# Altium schematic symbol library OSD335-X_Devboard.SchLib: 66 symbols
Pins are listed as number, name and electrical type; pins without a type are passive.

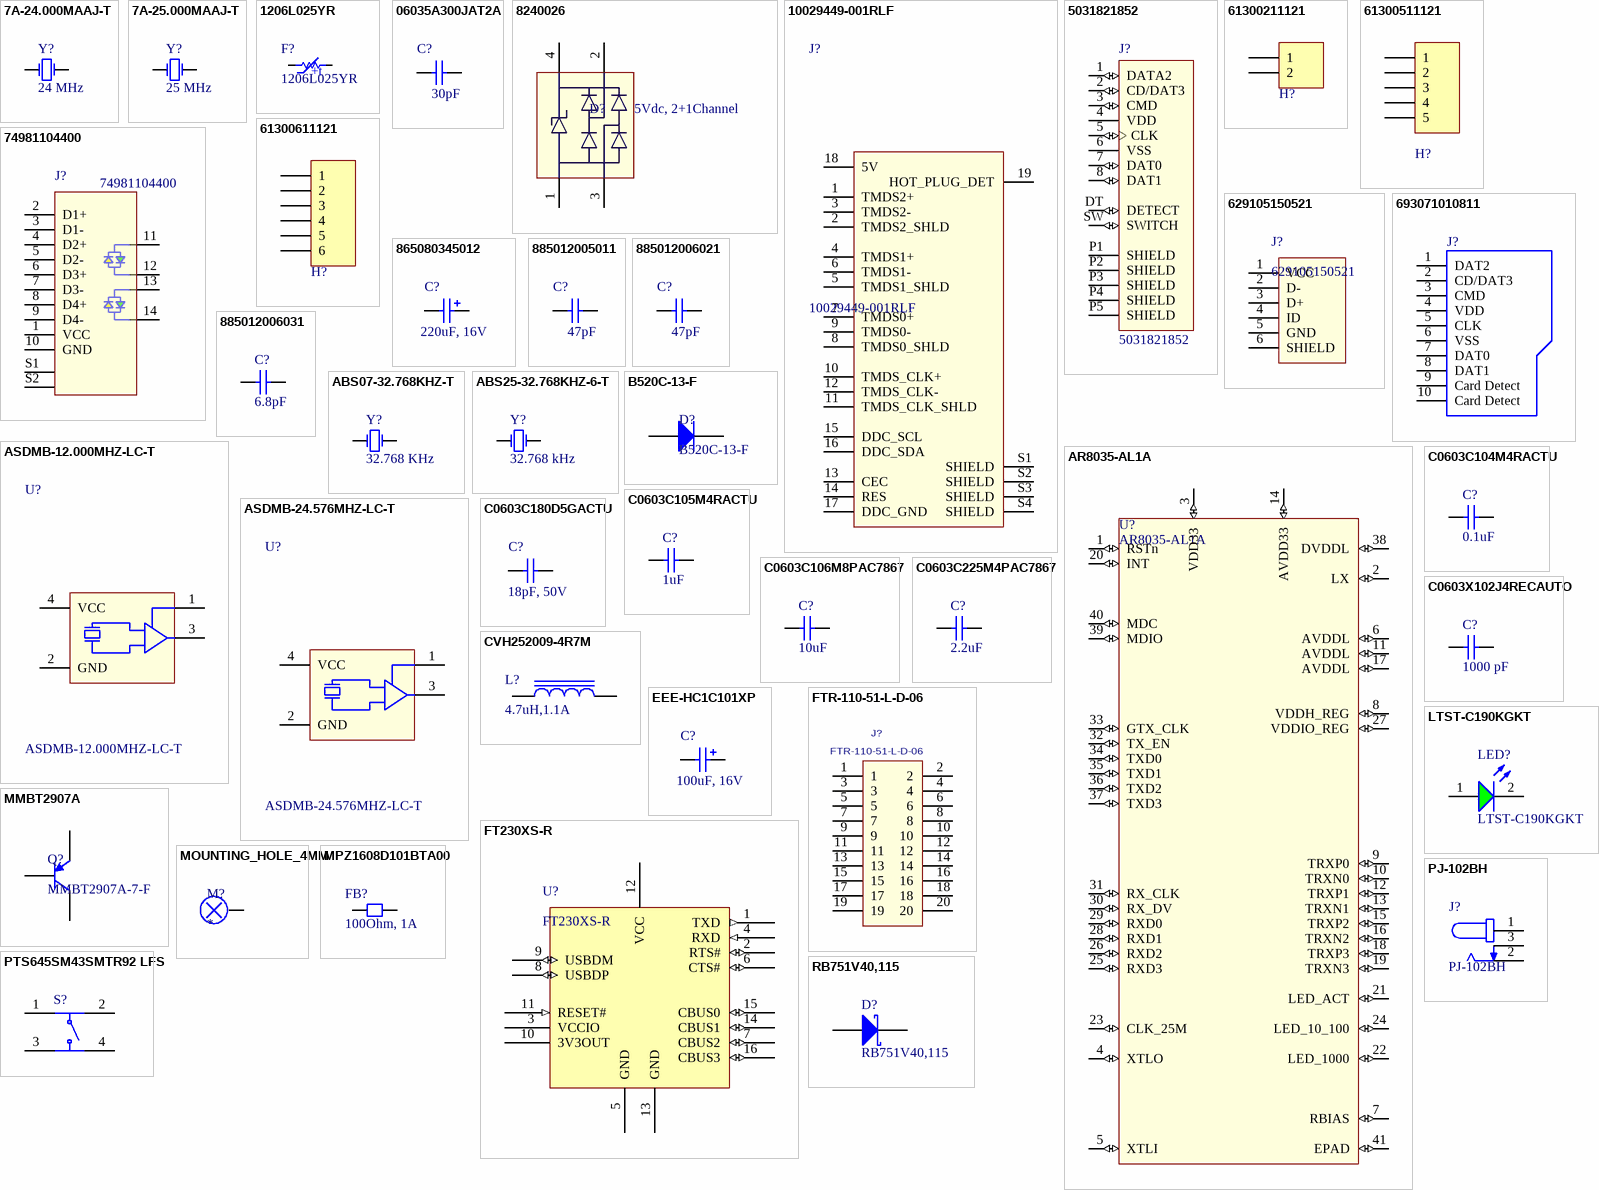
[diagram p0: symbols 7A-24.000MAAJ-T to RB751V40,115]

## 7A-24.000MAAJ-T
designator Y?, comment 24 MHz
CRYSTAL 24.0000MHZ 18PF SMD; Manufacturer: TXC CORPORATION; Manufacturer Part No.: 7A-24.000MAAJ-T; Date: 2020; ComponentLink1Description: Manufacturer Link; ComponentLink1URL: http://www.ecsxtal.com/; ComponentLink2Description: Data Sheet; Supplier Part No.: 887-1090-1-ND; Supplier: Digikey; Package Reference: 7A-24MHz; Package Description: 7A-24MHz; Mounting Technology: SMD; Datasheet: CRYSTAL 24.0000MHZ 18PF SMD; Value: 24 MHz
footprint 7A-24MHz
pins: 1 OSC1, 2 OSC2

## 7A-25.000MAAJ-T
designator Y?, comment 25 MHz
CRYSTAL 25.0000MHZ 18PF SMD; Manufacturer: TXC CORPORATION; Manufacturer Part No.: 7A-25.000MAAJ-T; Date: 2020; ComponentLink1Description: Manufacturer Link; ComponentLink1URL: http://www.ecsxtal.com/; ComponentLink2Description: Data Sheet; Supplier Part No.: 887-1092-1-ND; Supplier: Digikey; Package Reference: 7A-24MHz; Package Description: 7A-24MHz; Mounting Technology: SMD; Datasheet: *; Value: 25 MHz
footprint 7A-24MHz
pins: 1 OSC1, 2 OSC2

## 1206L025YR
designator F?
PTC RESET FUSE 16V 250MA 1206; Manufacturer: Littelfuse Inc.; Rated Current: 0.25A; Manufacturer Part No.: 1206L025YR; Supplier: Digi-Key; Mounting Technology: SMD; Supplier Part No.: F2110CT-ND; Package Description: Polymeric PTC Resettable Fuse 16V 250mA Ih Surface Mount 1206 (3216 Metric), Concave; Package Reference: CAP_1206; Datasheet: https://www.littelfuse.com/~/media/electronics/datasheets/resettable_ptcs/littelfuse_ptc_1206l_datasheet.pdf.pdf
footprint RES_1206
pins: 1, 2
text: +t

## 06035A300JAT2A
designator C?, comment 30pF
CAP CER 30PF 50V C0G/NP0 0603; Manufacturer Part No.: 06035A300JAT2A; Manufacturer: AVX Corporation; Tolerance: 5%; Rated Voltage: 50 VDC; ComponentLink1Description: Manufacturer; ComponentLink1URL: http://www.we-online.de; ComponentLink2Description: Datasheet; ComponentLink2URL: https://katalog.we-online.com/pbs/datasheet/865080345012.pdf; Mounting Technology: SMD; Value: 30 pF; Datasheet: *; Supplier: Digi-Key; Package Reference: CAP_0603; Supplier Part No.: 478-7917-1-ND; Package Description: 0603
footprint CAP_0603
pins: 1 N, 2 P

## 8240026
designator D?, comment 5Vdc, 2+1Channel
TVS DIODE 5V 9V SOT143-4 ESD; Manufacturer: Wurth Elektronik; Manufacturer Part No.: 8240026; Reverse Breakdown Voltage min.: 6V; Channel: 2+1; Channel Input Capacitance: 1.2pF; Reverse Peak Pulse Current: 6A; Reverse Channel Leakage Current: 1uA; ComponentLink1Description: Manufacturer; ComponentLink1URL: http://www.we-online.de; ComponentLink2Description: Datasheet; ComponentLink2URL: https://katalog.we-online.com/pbs/datasheet/8240026.pdf; Mounting Technology: SMD; DC Operating Voltage: 5V; Supplier: Digi-Key; Supplier Part No.: 732-4470-1-ND; Datasheet: https://www.we-online.de/katalog/datasheet/8240026.pdf; Package Description: SOT143-4
footprint SOT143-4L (TVS Diode, package SOT143-4L)
pins: 1 GND, 2 IO1, 3 IO2, 4 VDD

## 10029449-001RLF
designator J?
CONN RCPT 1.4 HDMI 19POS SMD R/A; Manufacturer: Amphenol ICC (FCI); Supplier: Digi-Key; Manufacturer Part No.: 10029449-001RLF; Supplier Part No.: 609-1010-1-ND; Mounting Technology: THRU; Package Reference: 10029449-001RLF; Package Description: HDMI HDMI™ 1.4 Receptacle Connector 19 Position Surface Mount, Right Angle; Through Hole; Datasheet: https://cdn.amphenol-icc.com/media/wysiwyg/files/documentation/datasheet/inputoutput/io_hdmi_receptacles.pdf
footprint 10029449-001RLF (HDMI)
pins: 1 TMDS2+, 2 TMDS2_SHLD, 3 TMDS2-, 4 TMDS1+, 5 TMDS1_SHLD, 6 TMDS1-, 7 TMDS0+, 8 TMDS0_SHLD, 9 TMDS0-, 10 TMDS_CLK+, 11 TMDS_CLK_SHLD, 12 TMDS_CLK-, 13 CEC, 14 RES, 15 DDC_SCL, 16 DDC_SDA, 17 DDC_GND, 18 5V, 19 HOT_PLUG_DET, S1 SHIELD, S2 SHIELD, S3 SHIELD, S4 SHIELD

## 5031821852
designator J?
MICRO SD NORMAL ULTRALOWPRO8CKTE; Manufacturer: Molex; Supplier: Digi-Key; Manufacturer Part No.: 5031821852; Supplier Part No.: WM12834CT-ND; Datasheet: *; Package Description: 10 (8 + 2) Position Card Connector microSD™ Surface Mount, Right Angle Gold; Package Reference: 5031821852; Mounting Technology: SMD
footprint 5031821852
pins: 1 DATA2 (io), 2 CD/DAT3 (io), 3 CMD (io), 4 VDD (power), 5 CLK (io), 6 VSS (power), 7 DAT0 (io), 8 DAT1 (io), DT DETECT (io), P1 SHIELD, P2 SHIELD, P3 SHIELD, P4 SHIELD, P5 SHIELD, SW SWITCH (io)

## 61300211121
designator H?, comment 02p  (value not drawn)
CONN HEADER VERT 2POS 2.54MM; Manufacturer: Wurth Elektronik; Manufacturer Part No.: 61300211121; ComponentLink1Description: Manufacturer; ComponentLink1URL: http://www.we-online.de; ComponentLink2Description: Datasheet; ComponentLink2URL: http://katalog.we-online.de/em/datasheet/6130xx11121.pdf; Supplier Part No.: 732-5315-ND; Supplier: Digi-Key; Package Reference: HEADER_2X1_2.54MM; Package Description: Header 2-pin 2.54mm 100mils; Mounting Technology: THRU; Datasheet: https://www.we-online.de/katalog/datasheet/6130xx11121.pdf
footprint HEADER_2X1_2.54MM
pins: 1, 2

## 61300511121
designator H?, comment 06p  (value not drawn)
CONN HEADER VERT 6POS 2.54MM; Manufacturer Part No.: 61300511121; Manufacturer: Wurth Elektronik; Supplier: Digi-Key; ComponentLink1Description: Manufacturer; ComponentLink1URL: http://www.we-online.de; ComponentLink2Description: Datasheet; ComponentLink2URL: http://katalog.we-online.de/em/datasheet/6130xx11121.pdf; Supplier Part No.: 732-5318-ND; Datasheet: https://www.we-online.de/katalog/datasheet/6130xx11121.pdf; Package Reference: HEADER_5X1_2.54MM; Mounting Technology: THRU; Package Description: Header, 5-pin, single-row, 2.54mm/0.100" pitch
footprint HEADER_5X1_2.54MM
pins: 1, 2, 3, 4, 5

## 61300611121
designator H?, comment 06p  (value not drawn)
CONN HEADER VERT 6POS 2.54MM; Manufacturer Part No.: 61300611121; Manufacturer: Wurth Elektronik; Supplier: Digi-Key; ComponentLink1Description: Manufacturer; ComponentLink1URL: http://www.we-online.de; ComponentLink2Description: Datasheet; ComponentLink2URL: http://katalog.we-online.de/em/datasheet/6130xx11121.pdf; Supplier Part No.: 732-5319-ND; Datasheet: https://www.we-online.de/katalog/datasheet/6130xx11121.pdf; Package Reference: HEADER_6X1_2.54MM; Mounting Technology: THRU; Package Description: Header, 6-pin, single-row, 2.54mm/0.100" pitch
footprint HEADER_6X1_2.54MM
pins: 1, 2, 3, 4, 5, 6

## 74981104400
designator J?
WE-RJ45LAN INTEGRATED RJ45 TRANS; Manufacturer: Wurth Elektronik; ComponentLink1Description: Manufacturer; ComponentLink1URL: http://www.we-online.de; ComponentLink2Description: Datasheet; ComponentLink2URL: https://katalog.we-online.com/pbs/datasheet/74981104400.pdf; Manufacturer Part No.: 74981104400; Mounting Technology: SMD; Supplier: Digi-Key; Supplier Part No.: 732-13940-1-ND; Package Description: 1 Port RJ45 Magjack Connector Through Hole 10/100/1000 Base-T, AutoMDIX; Package Reference: 7498110440
footprint 74981104400 (10/100/1000 Base-T, THT, 1x1, Tab up, w/o shield tabs, LED L-R yellow-green/yellow-green, THR)
pins: 1 VCC, 2 D1+, 3 D1-, 4 D2+, 5 D2-, 6 D3+, 7 D3-, 8 D4+, 9 D4-, 10 GND, 11, 12, 13, 14, S1 Shield, S2 Shield

## 629105150521
designator J?
CONN RCPT USB2.0 MICRO B SMD R/A; Manufacturer: Wurth Elektronik; ComponentLink1 Description: Manufacturer; ComponentLink2 Description: Datasheet; ComponentLink1URL: http://www.we-online.de; ComponentLink2URL: http://katalog.we-online.de/em/datasheet/629105150521.pdf; Supplier: Digi-Key; Mounting Technology: THRU/SMD; Supplier Part No.: 732-5960-1-ND; Package Description: MICRO USB TYPE B DEVICE RECEPTACLE; Manufacturer Part No.: 629105150521; Package Reference: 629105150521; Datasheet: https://www.we-online.de/katalog/datasheet/629105150521.pdf
footprint 629105150521 (WR-COM_USB_Micro Type B_Horizontal_SMT Micro Type B Horizontal SMT - 3A current at Pin1 & Pin 5 - with Pegs and THT shielding Pins  - T&R Packaging)
pins: 1 VCC, 2 D-, 3 D+, 4 ID, 5 GND, 6 SHIELD

## 693071010811
designator J?
CONN MICRO SD CARD PUSH-PUSH R/A; Manufacturer: Wurth Elektronik; Manufacturer Part No.: 693071010811; Gender: Socket; ComponentLink1Description: Manufacturer; ComponentLink1URL: http://www.we-online.de; ComponentLink2Description: Datasheet; ComponentLink2URL: https://katalog.we-online.com/em/datasheet/693071010811.pdf; Mounting Technology: SMD; Supplier: Wurth Elektronik; Supplier Part No.: 693071010811; Package Reference: 693071010811; Datasheet: https://www.we-online.de/katalog/datasheet/693071010811.pdf; Package Description: 9 (8 + 1) Position Card Connector Secure Digital - microSD™ Surface Mount, Right Angle Gold
pins: 1 DAT2, 2 CD/DAT3, 3 CMD, 4 VDD, 5 CLK, 6 VSS, 7 DAT0, 8 DAT1, 9 Card Detect, 10 Card Detect

## 865080345012
designator C?, comment 220uF, 16V
CAP 220 UF 20% 16 V; Manufacturer Part No.: 865080345012; Manufacturer: Wurth Elektronik; Rated Voltage: 16 VDC; ComponentLink1Description: Manufacturer; ComponentLink1URL: http://www.we-online.de; ComponentLink2Description: Datasheet; ComponentLink2URL: https://katalog.we-online.com/pbs/datasheet/865080345012.pdf; Mounting Technology: SMD; Value: 220uF; Tolerance: 20%; Datasheet: *; Supplier: Digi-Key; Package Reference: CAP_SMD_6.3x7.7; Supplier Part No.: 732-8422-1-ND; Package Description: CAP_SMD_6.3x7.7
footprint CAP_SMD_6.3x7.7 (Aluminium Electrolytic V-Chip SMT Capacitors, 6.3x7.7mm)
pins: 1 N, 2 P

## 885012005011
designator C?, comment 47pF
CAP CER 47PF 10V C0G/NP0 0402; Manufacturer Part No.: 885012005011; Manufacturer: Wurth Elektronik; Tolerance: 5%; Rated Voltage: 10 VDC; ComponentLink1Description: Manufacturer; ComponentLink1URL: http://www.we-online.de; ComponentLink2Description: Datasheet; ComponentLink2URL: https://katalog.we-online.com/pbs/datasheet/865080345012.pdf; Mounting Technology: SMD; Value: 47 pF; Datasheet: https://katalog.we-online.de/pbs/datasheet/885012005011.pdf; Supplier: Digi-Key; Package Reference: CAP_0402; Supplier Part No.: 732-7429-1-ND; Package Description: 0402
footprint CAP_0402
pins: 1 N, 2 P

## 885012006021
designator C?, comment 47pF
CAP CER 47PF 16V C0G/NP0 0603; Manufacturer Part No.: 885012006021; Manufacturer: Wurth Elektronik; Tolerance: 5%; Rated Voltage: 16 VDC; ComponentLink1Description: Manufacturer; ComponentLink1URL: http://www.we-online.de; ComponentLink2Description: Datasheet; ComponentLink2URL: https://katalog.we-online.com/pbs/datasheet/865080345012.pdf; Mounting Technology: SMD; Value: 47 pF; Datasheet: *; Supplier: Digi-Key; Package Reference: CAP_0603; Supplier Part No.: 732-7764-1-ND; Package Description: 0603
footprint CAP_0603
pins: 1 N, 2 P

## 885012006031
designator C?, comment 6.8pF
CAP CER 6.8PF 25V C0G/NP0 0603; Manufacturer: Wurth Elektronik; Manufacturer Part No.: 885012006031; Tolerance: 0.5pF; ComponentLink1Description: Manufacturer; ComponentLink1URL: http://www.we-online.de; Value: 6.8pF; Rated Voltage: 25V; Ceramic Type: C0G / NP0; Supplier Part No.: 732-7773-1-ND; Package Reference: CAP_0603; Package Description: 0603; Mounting Technology: SMD; Datasheet: https://content.kemet.com/datasheets/KEM_C1002_X7R_SMD.pdf; Supplier: Digi-Key; ComponentLink2Description: Datasheet; ComponentLink2URL: https://content.kemet.com/datasheets/KEM_C1002_X7R_SMD.pdf
footprint CAP_0603
pins: 1, 2

## ABS07-32.768KHZ-T
designator Y?, comment 32.768 KHz
CRYSTAL 32.7680KHZ 12.5PF SMD; Manufacturer: Abracon LLC; Manufacturer Part No.: ABS07-32.768KHZ-T; Date: 2020; ComponentLink1Description: Manufacturer Link; ComponentLink1URL: http://www.ecsxtal.com/; ComponentLink2Description: Data Sheet; Supplier Part No.: 535-9542-1-ND; Supplier: Digikey; Package Reference: ABS07; Package Description: ABS07; Mounting Technology: SMD; Value: 32.768 KHz
footprint ABS07
pins: 1 OSC1, 2 OSC2

## ABS25-32.768KHZ-6-T
designator Y?, comment 32.768 kHz
CRYSTAL 32.7680KHZ 6PF SMD; Manufacturer: Abracon LLC; Manufacturer Part No.: ABS25-32.768KHZ-6-T; Date: 2012-03-10; ComponentLink1Description: Manufacturer Link; ComponentLink1URL: http://www.ecsxtal.com/; ComponentLink2Description: Data Sheet; Supplier Part No.: 535-10240-2-ND; Supplier: Digikey; Package Reference: 4-SOJ; Package Description: 4-SOJ; Mounting Technology: SMD; Datasheet: https://abracon.com/Resonators/abs25.pdf; Value: 32.768 kHz
footprint ABS25
pins: 1 OSC1, 2 OSC2

## AR8035-AL1A
designator U?
IC ETHERNET TRANSCEIVER FULL 1/1 GIGABIT 40QFN; Manufacturer: Qualcomm; Datasheet: *; Manufacturer Part No.: AR8035-AL1A; Supplier: Digi-Key; Package Reference: QFN-40_5x5MM; Supplier Part No.: AR8035-AL1A-ND; Package Description: 40-WFQFN Exposed Pad; Mounting Technology: SMD
footprint QFN-40_5X5MM
pins: 1 RSTn (io), 2 LX (io), 3 VDD33 (io), 4 XTLO (io), 5 XTLI (io), 6 AVDDL (io), 7 RBIAS (io), 8 VDDH_REG (io), 9 TRXP0 (io), 10 TRXN0 (io), 11 AVDDL (io), 12 TRXP1 (io), 13 TRXN1 (io), 14 AVDD33 (io), 15 TRXP2 (io), 16 TRXN2 (io), 17 AVDDL (io), 18 TRXP3 (io), 19 TRXN3 (io), 20 INT (io), 21 LED_ACT (io), 22 LED_1000 (io), 23 CLK_25M (io), 24 LED_10_100 (io), 25 RXD3 (io), 26 RXD2 (io), 27 VDDIO_REG (io), 28 RXD1 (io), 29 RXD0 (io), 30 RX_DV (io), 31 RX_CLK (io), 32 TX_EN (io), 33 GTX_CLK (io), 34 TXD0 (io), 35 TXD1 (io), 36 TXD2 (io), 37 TXD3 (io), 38 DVDDL (io), 39 MDIO (io), 40 MDC (io), 41 EPAD (io)

## ASDMB-12.000MHZ-LC-T
designator U?
MEMS OSC XO 12.0000MHZ LVCMOS; Manufacturer: Abracon LLC; Supplier: Digi-Key; Manufacturer Part No.: ASDMB-12.000MHZ-LC-T; Supplier Part No.: 535-11724-1-ND; Mounting Technology: SMD; Package Reference: ABRACON_4SMD_QFN; Package Description: QFN-4, ABRACON 4-SMD; Datasheet: https://abracon.com/Oscillators/ASDMB.pdf
footprint ABRACON_4SMD_QFN
pins: 1 STDBY, 2 GND, 3 OUT, 4 VCC

## ASDMB-24.576MHZ-LC-T
designator U?
MEMS OSC XO 24.5760MHZ LVCMOS; Manufacturer: Abracon LLC; Supplier: Digi-Key; Manufacturer Part No.: ASDMB-24.576MHZ-LC-T; Supplier Part No.: 535-11729-1-ND; Mounting Technology: SMD; Package Reference: ABRACON_4SMD_QFN; Package Description: QFN-4, ABRACON 4-SMD; Datasheet: https://abracon.com/Oscillators/ASDMB.pdf
footprint ABRACON_4SMD_QFN
pins: 1 STDBY, 2 GND, 3 OUT, 4 VCC

## B520C-13-F
designator D?
DIODE SCHOTTKY 20V 5A SMC; Manufacturer: Diodes Incorporated; Manufacturer Part No.: B520C-13-F; Package Description: Diode Schottky 20V 5A Surface Mount SMC; Package Reference: D0-214AA; Supplier: Digi-Key; Mounting Technology: SMD; Supplier Part No.: B520C-FDICT-ND; Datasheet: https://www.littelfuse.com/~/media/electronics/datasheets/tvs_diodes/littelfuse_tvs_diode_smbj_datasheet.pdf.pdf
footprint D0-214AA
pins: 1 A, 2 K

## C0603C104M4RACTU
designator C?, comment 0.1uF
CAP CER 0.1UF 16V X7R 0603; Manufacturer: KEMET; Manufacturer Part No.: C0603C104M4RACTU; Tolerance: 20%; ComponentLink1Description: Manufacturer; ComponentLink1URL: http://www.we-online.de; Value: 0.1uF; Rated Voltage: 16V; Ceramic Type: X7R; Supplier Part No.: 399-1099-1-ND; Package Reference: CAP_0603; Package Description: 0603; Mounting Technology: SMD; Datasheet: https://content.kemet.com/datasheets/KEM_C1002_X7R_SMD.pdf; Supplier: Digi-Key; ComponentLink2Description: Datasheet; ComponentLink2URL: https://content.kemet.com/datasheets/KEM_C1002_X7R_SMD.pdf
footprint CAP_0603
pins: 1, 2

## C0603C105M4RACTU
designator C?, comment 1uF
CAP CER 1UF 16V X7R 0603; Manufacturer: KEMET; Manufacturer Part No.: C0603C105M4RACTU; Tolerance: 20%; ComponentLink1Description: Manufacturer; ComponentLink1URL: http://www.we-online.de; Value: 1uF; Rated Voltage: 16V; Ceramic Type: X7R; Supplier Part No.: 399-11136-1-ND; Package Reference: CAP_0603; Package Description: 0603; Mounting Technology: SMD; Datasheet: https://content.kemet.com/datasheets/KEM_C1002_X7R_SMD.pdf; Supplier: Digi-Key; ComponentLink2Description: Datasheet; ComponentLink2URL: https://content.kemet.com/datasheets/KEM_C1002_X7R_SMD.pdf
footprint CAP_0603
pins: 1, 2

## C0603C106M8PAC7867
designator C?, comment 10uF
CAP CER 10UF 10V X5R 0603; Manufacturer: KEMET; Manufacturer Part No.: C0603C106M8PAC7867; Ceramic Type: X7R; Tolerance: 20%; ComponentLink1Description: Manufacturer; ComponentLink1URL: http://www.we-online.de; Value: 10uF; Rated Voltage: 10V; Supplier Part No.: 399-14945-1-ND; Package Reference: CAP_0603; Package Description: 0603; Mounting Technology: SMD; Datasheet: https://content.kemet.com/datasheets/KEM_C1002_X7R_SMD.pdf; Supplier: Digi-Key; ComponentLink2Description: Datasheet; ComponentLink2URL: https://content.kemet.com/datasheets/KEM_C1002_X7R_SMD.pdf
footprint CAP_0603
pins: 1, 2

## C0603C180D5GACTU
designator C?, comment 18pF, 50V
CAP CER 18PF 50V C0G/NP0 0603 +/- 0.5 PF; Manufacturer Part No.: C0603C180D5GACTU; Manufacturer: KEMET; Tolerance: 0.5 pF; Rated Voltage: 50 VDC; ComponentLink1Description: Manufacturer; ComponentLink1URL: http://www.we-online.de; ComponentLink2Description: Datasheet; ComponentLink2URL: https://katalog.we-online.com/pbs/datasheet/865080345012.pdf; Mounting Technology: SMD; Value: 18 pF; Datasheet: *; Supplier: Digi-Key; Package Reference: CAP_0603; Supplier Part No.: 399-9018-1-ND; Package Description: 0603
footprint CAP_0603
pins: 1 N, 2 P

## C0603C225M4PAC7867
designator C?, comment 2.2uF
CAP CER 2.2UF 16V X5R 0603; Manufacturer: KEMET; Manufacturer Part No.: C0603C104M4RACTU; Tolerance: 20%; ComponentLink1Description: Manufacturer; ComponentLink1URL: http://www.we-online.de; Value: 2.2uF; Rated Voltage: 16V; Ceramic Type: X5R; Supplier Part No.: 399-13136-1-ND; Package Reference: CAP_0603; Package Description: 0603; Mounting Technology: SMD; Datasheet: https://content.kemet.com/datasheets/KEM_C1002_X7R_SMD.pdf; Supplier: Digi-Key; ComponentLink2Description: Datasheet; ComponentLink2URL: https://content.kemet.com/datasheets/KEM_C1002_X7R_SMD.pdf
footprint CAP_0603
pins: 1, 2

## C0603X102J4RECAUTO
designator C?, comment 1000 pF
CAP CER 0603 1NF 16V X7R 5%; Manufacturer: KEMET; Manufacturer Part No.: C0603X102J4RECAUTO; ComponentLink1Description: Manufacturer; ComponentLink1URL: http://www.we-online.de; Value: 1000 pF; Rated Voltage: 16V; Ceramic Type: X7R; Supplier Part No.: 399-17840-1-ND; Package Reference: CAP_0603; Package Description: 0603; Mounting Technology: SMD; Datasheet: https://content.kemet.com/datasheets/KEM_C1002_X7R_SMD.pdf; Tolerance: 5%; Supplier: Digi-Key; ComponentLink2Description: Datasheet; ComponentLink2URL: https://content.kemet.com/datasheets/KEM_C1002_X7R_SMD.pdf
footprint CAP_0603
pins: 1, 2

## CVH252009-4R7M
designator L?, comment 4.7uH,1.1A
FIXED IND 4.7UH 1.1A 110MOHM SMD; Manufacturer: Bourns Inc.; Manufacturer Part No.: CVH252009-4R7M; Tolerance: 20%; Mounting Technology: SMD; Package Description: 1008; Supplier: Digi-Key; Supplier Part No.: CVH252009-4R7MDKR-ND; DCR: 110 mOhm; DC Current: 1.1A; Package Reference: IND_1008; ComponentLink1Description: Datasheet; ComponentLink1URL: https://www.bourns.com/docs/Product-Datasheets/CVH.pdf
footprint IND_1008
pins: 1, 2

## EEE-HC1C101XP
designator C?, comment 100uF, 16V
CAP ALUM 100UF 20% 16V SMD; Manufacturer Part No.: EEE-HC1C101XP; Manufacturer: Panasonic Electronic Components; Rated Voltage: 16 VDC; ComponentLink1Description: Manufacturer; ComponentLink1URL: http://www.we-online.de; ComponentLink2Description: Datasheet; ComponentLink2URL: https://katalog.we-online.com/pbs/datasheet/865080345012.pdf; Mounting Technology: SMD; Value: 100uF; Tolerance: 20%; Datasheet: *; Supplier: Digi-Key; Supplier Part No.: PCE3750CT-ND
footprint RADIAL_CAN_6.3MM (7.7mm height)
pins: 1 N, 2 P

## FT230XS-R
designator U?
IC USB SERIAL BASIC UART 16SSOP; Manufacturer: FTDI, Future Technology Devices International Ltd; Manufacturer Part No.: FT230XS-R; Supplier: Digi-Key; Mounting Technology: SMD; Supplier Part No.: 768-1135-1-ND; Datasheet: https://www.ftdichip.com/Support/Documents/DataSheets/ICs/DS_FT230X.pdf; Package Reference: SSOP-16; Package Description: USB Bridge, USB to UART USB 2.0 UART Interface 16-SSOP; ComponentLink1Description: Datasheet; ComponentLink1URL: https://www.ftdichip.com/Support/Documents/DataSheets/ICs/DS_FT230X.pdf
footprint SOP64P600X175-16N (SOP, 16-Leads, Body 4.90x3.90mm, Pitch 0.64mm, IPC Medium Density)
pins: 1 TXD (out), 2 RTS# (io), 3 VCCIO (power), 4 RXD (in), 5 GND (power), 6 CTS# (io), 7 CBUS2 (io), 8 USBDP (io), 9 USBDM (io), 10 3V3OUT (power), 11 RESET# (in), 12 VCC (power), 13 GND (power), 14 CBUS1 (io), 15 CBUS0 (io), 16 CBUS3 (io)

## FTR-110-51-L-D-06
designator J?
CONN HEADER SMD 20POS 1.27MM; Manufacturer: SAMTEC; Manufacturer Part No.: FTR-110-51-L-D-06; Supplier: Digi-Key; Mounting Technology: SMD; Supplier Part No.: SAM11229-ND; Package Description: Header 2x10 1.7MM; Datasheet: *; Package Reference: HEADER_2X10_1.7MM
footprint HEADER_2X10_1.7MM
pins: 1, 2, 3, 4, 5, 6, 7, 8, 9, 10, 11, 12, 13, 14, 15, 16, 17, 18, 19, 20

## LTST-C190KGKT
designator LED?
LED GREEN CLEAR CHIP SMD 0603; Manufacturer: Lite-On Inc.; Vf: 2V; Test Current: 20 mA; ComponentLink1Description: Manufacturer; ComponentLink1URL: http://www.we-online.de; ComponentLink2Description: Datasheet; ComponentLink2URL: http://katalog.we-online.com/led/datasheet/150080BS75000.pdf; Color: Green; Manufacturer Part No.: LTST-C190KGKT; Supplier: Digi-Key; Package Reference: LED_0603; Supplier Part No.: 160-1435-1-ND; Mounting Technology: SMD; Datasheet: http://optoelectronics.liteon.com/upload/download/DS22-2000-074/LTST-C190KGKT.PDF
footprint LED_0603
pins: 1 A, 2 C

## MMBT2907A
designator Q?, comment MMBT2907A-7-F
TRANS PNP 60V 0.6A SOT23-3; Manufacturer: Diodes Incorporated; Manufacturer Part No.: MMBT2907A-7-F; Supplier: Digi-Key; Mounting Technology: SMD; Supplier Part No.: MMBT2907A-FDICT-ND; Package Reference: SOT-23-3; Package Description: Bipolar (BJT) Transistor PNP 60V 600mA 200MHz 300mW Surface Mount SOT-23-3; Datasheet: https://media.digikey.com/pdf/Data%20Sheets/Diodes%20PDFs/MMBT2907A_Rev2016.pdf; Current: 0.6A
footprint SOT-23-3 (SOT23, 3-Leads, Body 2.9x1.3mm, Pitch 0.95mm, IPC Low Density)
pins: 1 B, 2 E, 3 C

## MOUNTING_HOLE_4MM
designator M?
footprint MOUNTING_HOLE_4MM
pins: 1

## MPZ1608D101BTA00
designator FB?, comment 100Ohm, 1A
FERRITE BEAD 100 OHM 0603 1LN; Manufacturer Part No.: MPZ1608D101BTA00; Manufacturer: TDK Corporation; Datasheet: https://product.tdk.com/info/en/catalog/datasheets/beads_commercial_power_mpz1608_en.pdf; Supplier: Digi-Key; Package Description: 100 Ohms @ 100MHz 1 Power Line Ferrite Bead 0603 (1608 Metric) 1A 150mOhm; Supplier Part No.: 445-2988-1-ND; Package Reference: CAP_0603; Mounting Technology: SMD
footprint CAP_0603
pins: 1, 2

## PJ-102BH
designator J?
CONN PWR JACK 2.5X5.5MM SOLDER; Manufacturer: CUI Devices; Current: 5A; Supplier Part No.: CP-102BH-ND; Manufacturer Part No.: PJ-102BH; Package Description: Power Barrel Connector Jack 2.50mm ID (0.098"), 5.50mm OD (0.217") Through Hole, Right Angle; Package Reference: PJ-102BH; Mounting Technology: THRU; Datasheet: https://www.cuidevices.com/product/resource/pj-102bh.pdf; Supplier: Digi-Key
footprint PJ-102BH
pins: 1, 2, 3

## PTS645SM43SMTR92 LFS
designator S?
SWITCH TACTILE SPST-NO 0.05A 12V; Manufacturer: C&K; Manufacturer Part No.: PTS645SM43SMTR92 LFS; ComponentLink1Description: Manufacturer; ComponentLink1URL: http://www.we-online.de; ComponentLink2Description: Datasheet; ComponentLink2URL: http://katalog.we-online.de/em/datasheet/4301x2xxx8x6.pdf; Supplier: Digikey; Supplier Part No.: CKN9112CT-ND; Package Description: 6x6mm SMT Switch, 4.3mm height; Mounting Technology: SMD; Datasheet: https://dznh3ojzb2azq.cloudfront.net/products/Tactile/PTS645/documents/datasheet.pdf; Package Reference: SWITCH_6x6MM_SMT
footprint SWITCH_6x6MM_SMT
pins: 1, 2, 3, 4

## RB751V40,115
designator D?
DIODE SCHOTTKY 40V 120MA SOD323; Manufacturer: Nexperia USA Inc.; Forward Voltage: 0.37V; Mounting Technology: SMD; Supplier Part No.: 1727-6301-1-ND; Manufacturer Part No.: RB751V40,115; Package Reference: *; Package Description: *; Forward Current: 120mA; Supplier: Digi-Key
footprint SOD-323
pins: 1 A, 2 K

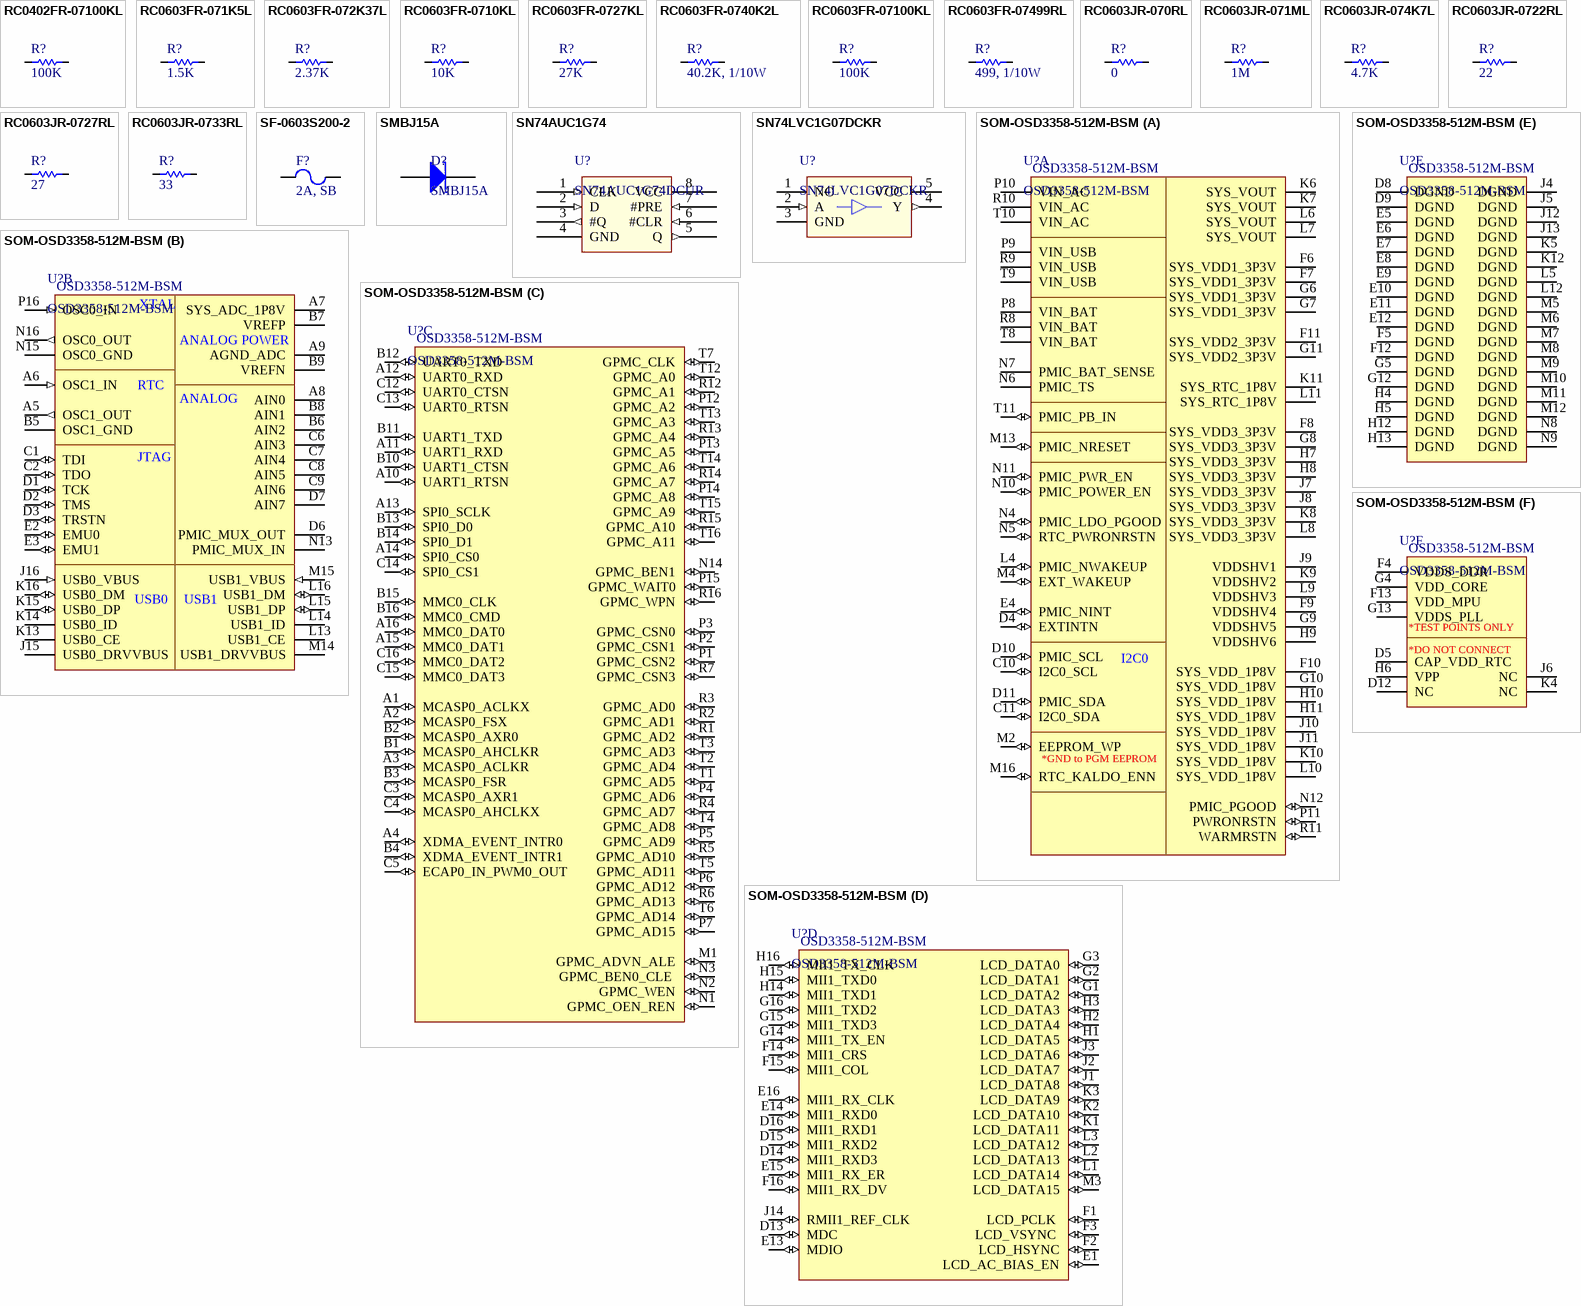
[diagram p1: symbols RC0402FR-07100KL to SOM-OSD3358-512M-BSM]

## RC0402FR-07100KL
designator R?, comment 100K
RES SMD 100K OHM 1% 1/16W 0402; Manufacturer: Yageo; Manufacturer Part No.: RC0402FR-07100KL; Tolerance: 1%; Date: 2020; ComponentLink1Description: Manufacturer Link; ComponentLink1URL: http://www.vishay.com/company/brands/dale/; ComponentLink2Description: Datasheet; ComponentLink2URL: http://www.vishay.com/docs/20035/dcrcwe3.pdf; Supplier: Digikey; Supplier Part No.: 311-100KLRCT-ND; Datasheet: https://www.yageo.com/upload/media/product/productsearch/datasheet/rchip/PYu-RC_Group_51_RoHS_L_10.pdf; Package Reference: RES_0402; Package Description: 0402; Mounting Technology: SMD; Value: 100K; Power Rating: 1/16W
footprint RES_0402
pins: 1, 2

## RC0603FR-071K5L
designator R?, comment 1.5K
RES SMD 1.5K OHM 1% 1/10W 0603; Manufacturer: Yageo; Manufacturer Part No.: RC0603FR-071K5L; Tolerance: 1%; Date: 2020; ComponentLink1Description: Manufacturer Link; ComponentLink1URL: http://www.vishay.com/company/brands/dale/; ComponentLink2Description: Datasheet; ComponentLink2URL: http://www.vishay.com/docs/20035/dcrcwe3.pdf; Supplier: Digikey; Supplier Part No.: 311-1.50KHRCT-ND; Datasheet: https://www.yageo.com/upload/media/product/productsearch/datasheet/rchip/PYu-RC_Group_51_RoHS_L_10.pdf; Package Reference: RES_0603; Package Description: 0603; Mounting Technology: SMD; Value: 1.5K; Power Rating: 1/10W
footprint RES_0603
pins: 1, 2

## RC0603FR-072K37L
designator R?, comment 2.37K
RES SMD 2.37K OHM 1% 1/10W 0603; Manufacturer: Yageo; Manufacturer Part No.: RC0603FR-072K37L; Tolerance: 1%; Date: 2020; ComponentLink1Description: Manufacturer Link; ComponentLink1URL: http://www.vishay.com/company/brands/dale/; ComponentLink2Description: Datasheet; ComponentLink2URL: http://www.vishay.com/docs/20035/dcrcwe3.pdf; Supplier: Digikey; Supplier Part No.: 311-2.37KHRCT-ND; Datasheet: https://www.yageo.com/upload/media/product/productsearch/datasheet/rchip/PYu-RC_Group_51_RoHS_L_10.pdf; Package Reference: RES_0603; Package Description: 0603; Mounting Technology: SMD; Value: 2.37K; Power Rating: 1/10W
footprint RES_0603
pins: 1, 2

## RC0603FR-0710KL
designator R?, comment 10K
RES SMD 10K OHM 1% 1/10W 0603; Manufacturer: Yageo; Manufacturer Part No.: RC0603FR-0710KL; Tolerance: 1%; Date: 2020; ComponentLink1Description: Manufacturer Link; ComponentLink1URL: http://www.vishay.com/company/brands/dale/; ComponentLink2Description: Datasheet; ComponentLink2URL: http://www.vishay.com/docs/20035/dcrcwe3.pdf; Supplier: Digikey; Supplier Part No.: 311-10.0KHRCT-ND; Datasheet: https://www.yageo.com/upload/media/product/productsearch/datasheet/rchip/PYu-RC_Group_51_RoHS_L_10.pdf; Package Reference: RES_0603; Package Description: 0603; Mounting Technology: SMD; Value: 10K; Power Rating: 1/10W
footprint RES_0603
pins: 1, 2

## RC0603FR-0727KL
designator R?, comment 27K
RES SMD 27K OHM 1% 1/10W 0603; Manufacturer: Yageo; Manufacturer Part No.: RC0603FR-0727KL; Tolerance: 1%; Date: 2020; ComponentLink1Description: Manufacturer Link; ComponentLink1URL: http://www.vishay.com/company/brands/dale/; ComponentLink2Description: Datasheet; ComponentLink2URL: http://www.vishay.com/docs/20035/dcrcwe3.pdf; Supplier: Digikey; Supplier Part No.: 311-27.0KHRCT-ND; Datasheet: https://www.yageo.com/upload/media/product/productsearch/datasheet/rchip/PYu-RC_Group_51_RoHS_L_10.pdf; Package Reference: RES_0603; Package Description: 0603; Mounting Technology: SMD; Value: 27K; Power Rating: 1/10W
footprint RES_0603
pins: 1, 2

## RC0603FR-0740K2L
designator R?, comment 40.2K, 1/10W
RES SMD 40.2K OHM 1% 1/10W 0603; Manufacturer: Yageo; Manufacturer Part No.: RC0603FR-0740K2L; Tolerance: 1%; Date: 2020; ComponentLink1Description: Manufacturer Link; ComponentLink1URL: http://www.vishay.com/company/brands/dale/; ComponentLink2Description: Datasheet; ComponentLink2URL: http://www.vishay.com/docs/20035/dcrcwe3.pdf; Supplier: Digikey; Supplier Part No.: 311-40.2KHRCT-ND; Datasheet: https://www.yageo.com/upload/media/product/productsearch/datasheet/rchip/PYu-RC_Group_51_RoHS_L_10.pdf; Package Reference: RES_0603; Package Description: 0603; Mounting Technology: SMD; Value: 40.2K; Power Rating: 1/10W
footprint RES_0603
pins: 1, 2

## RC0603FR-07100KL
designator R?, comment 100K
RES SMD 100K OHM 1% 1/10W 0603; Manufacturer: Yageo; Manufacturer Part No.: RC0603FR-07100KL; Tolerance: 1%; Date: 2020; ComponentLink1Description: Manufacturer Link; ComponentLink1URL: http://www.vishay.com/company/brands/dale/; ComponentLink2Description: Datasheet; ComponentLink2URL: http://www.vishay.com/docs/20035/dcrcwe3.pdf; Supplier: Digikey; Supplier Part No.: 311-100KHRCT-ND; Datasheet: https://www.yageo.com/upload/media/product/productsearch/datasheet/rchip/PYu-RC_Group_51_RoHS_L_10.pdf; Package Reference: RES_0603; Package Description: 0603; Mounting Technology: SMD; Value: 100K; Power Rating: 1/10W
footprint RES_0603
pins: 1, 2

## RC0603FR-07499RL
designator R?, comment 499, 1/10W
RES SMD 499 OHM 1% 1/10W 0603; Manufacturer: Yageo; Manufacturer Part No.: RC0603FR-07499RL; Value: 499; Tolerance: 1%; Date: 2020; ComponentLink1Description: Manufacturer Link; ComponentLink1URL: http://www.vishay.com/company/brands/dale/; ComponentLink2Description: Datasheet; ComponentLink2URL: http://www.vishay.com/docs/20035/dcrcwe3.pdf; Supplier: Digikey; Supplier Part No.: 311-499HRCT-ND; Datasheet: https://www.yageo.com/upload/media/product/productsearch/datasheet/rchip/PYu-RC_Group_51_RoHS_L_10.pdf; Package Reference: RES_0603; Package Description: 0603; Mounting Technology: SMD; Power Rating: 1/10W
footprint RES_0603
pins: 1, 2

## RC0603JR-070RL
designator R?, comment 0
RES SMD 0 OHM JUMPER 1/10W 0603; Manufacturer: Yageo; Manufacturer Part No.: RC0603JR-070RL; Date: 2020; ComponentLink1Description: Manufacturer Link; ComponentLink1URL: http://www.vishay.com/company/brands/dale/; ComponentLink2Description: Datasheet; ComponentLink2URL: http://www.vishay.com/docs/20035/dcrcwe3.pdf; Supplier: Digikey; Supplier Part No.: 311-0.0GRCT-ND; Datasheet: https://www.yageo.com/upload/media/product/productsearch/datasheet/rchip/PYu-RC_Group_51_RoHS_L_10.pdf; Package Reference: RES_0603; Package Description: 0603; Mounting Technology: SMD; Value: 0; Power Rating: 1/10W
footprint RES_0603
pins: 1, 2

## RC0603JR-071ML
designator R?, comment 1M
RES SMD 1M OHM 5% 1/10W 0603; Manufacturer: Yageo; Manufacturer Part No.: RC0603JR-071ML; Tolerance: 5%; Date: 2020; ComponentLink1Description: Manufacturer Link; ComponentLink1URL: http://www.vishay.com/company/brands/dale/; ComponentLink2Description: Datasheet; ComponentLink2URL: http://www.vishay.com/docs/20035/dcrcwe3.pdf; Supplier: Digikey; Supplier Part No.: 311-1.0MGRCT-ND; Datasheet: https://www.yageo.com/upload/media/product/productsearch/datasheet/rchip/PYu-RC_Group_51_RoHS_L_10.pdf; Package Reference: RES_0603; Package Description: 0603; Mounting Technology: SMD; Value: 1M; Power Rating: 1/10W
footprint RES_0603
pins: 1, 2

## RC0603JR-074K7L
designator R?, comment 4.7K
RES SMD 4.7K OHM 5% 1/10W 0603; Manufacturer: Yageo; Manufacturer Part No.: RC0603JR-074K7L; Value: 4.7K; Tolerance: 5%; Date: 2020; ComponentLink1Description: Manufacturer Link; ComponentLink1URL: http://www.vishay.com/company/brands/dale/; ComponentLink2Description: Datasheet; ComponentLink2URL: http://www.vishay.com/docs/20035/dcrcwe3.pdf; Supplier: Digikey; Supplier Part No.: 311-4.7KGRCT-ND; Datasheet: https://www.yageo.com/upload/media/product/productsearch/datasheet/rchip/PYu-RC_Group_51_RoHS_L_10.pdf; Package Reference: RES_0603; Package Description: 0603; Mounting Technology: SMD; Power Rating: 1/10W
footprint RES_0603
pins: 1, 2

## RC0603JR-0722RL
designator R?, comment 22
RES SMD 22 OHM 5% 1/10W 0603; Manufacturer: Yageo; Manufacturer Part No.: RC0603JR-0722RL; Tolerance: 5%; Date: 2020; ComponentLink1Description: Manufacturer Link; ComponentLink1URL: http://www.vishay.com/company/brands/dale/; ComponentLink2Description: Datasheet; ComponentLink2URL: http://www.vishay.com/docs/20035/dcrcwe3.pdf; Supplier: Digikey; Supplier Part No.: 311-22GRCT-ND; Datasheet: https://www.yageo.com/upload/media/product/productsearch/datasheet/rchip/PYu-RC_Group_51_RoHS_L_10.pdf; Package Reference: RES_0603; Package Description: 0603; Mounting Technology: SMD; Power Rating: 1/10W; Value: 22
footprint RES_0603
pins: 1, 2

## RC0603JR-0727RL
designator R?, comment 27
RES SMD 27 OHM 5% 1/10W 0603; Manufacturer: Yageo; Manufacturer Part No.: RC0603JR-0727RL; Tolerance: 5%; Date: 2020; ComponentLink1Description: Manufacturer Link; ComponentLink1URL: http://www.vishay.com/company/brands/dale/; ComponentLink2Description: Datasheet; ComponentLink2URL: http://www.vishay.com/docs/20035/dcrcwe3.pdf; Supplier: Digikey; Supplier Part No.: 311-27GRCT-ND; Datasheet: https://www.yageo.com/upload/media/product/productsearch/datasheet/rchip/PYu-RC_Group_51_RoHS_L_10.pdf; Package Reference: RES_0603; Package Description: 0603; Mounting Technology: SMD; Value: 27
footprint RES_0603
pins: 1, 2

## RC0603JR-0733RL
designator R?, comment 33
RES SMD 33 OHM 5% 1/10W 0603; Manufacturer: Yageo; Manufacturer Part No.: RC0603JR-0733RL; Tolerance: 5%; Date: 2020; ComponentLink1Description: Manufacturer Link; ComponentLink1URL: http://www.vishay.com/company/brands/dale/; ComponentLink2Description: Datasheet; ComponentLink2URL: http://www.vishay.com/docs/20035/dcrcwe3.pdf; Supplier: Digikey; Supplier Part No.: 311-33GRCT-ND; Datasheet: https://www.yageo.com/upload/media/product/productsearch/datasheet/rchip/PYu-RC_Group_51_RoHS_L_10.pdf; Package Reference: RES_0603; Package Description: 0603; Mounting Technology: SMD; Value: 33
footprint RES_0603
pins: 1, 2

## SF-0603S200-2
designator F?, comment 2A, SB
FUSE BOARD MOUNT 2A 32VDC 0603; Manufacturer: Bourns Inc.; Manufacturer Part No.: SF-0603S200-2; ComponentLink1Description: Manufacturer Link; ComponentLink1URL: http://www.littelfuse.com/cgi-bin/r.cgi/en/brand_wickmann.html?LFSESSION=wIUUW1TXzO; ComponentLink2Description: Data Sheet; ComponentLink2URL: R:\Eclipse\ELE\PDF\Wickmann\Fuse TE-5 395.pdf; Date: 2020; Supplier: Digi-Key; Supplier Part No.: SF-0603S200-2CT-ND; Mounting Technology: SMD; Package Description: 2A  AC 32V DC Fuse Board Mount (Cartridge Style Excluded) Surface Mount 0603 (1608 Metric); Package Reference: CAP_0603
footprint CAP_0603
pins: 1, 2

## SMBJ15A
designator D?
TVS DIODE 15V 24.4V DO214AA; Manufacturer: Littelfuse Inc.; Manufacturer Part No.: SMBJ15A; Package Description: 24.4V Clamp 24.6A Ipp Tvs Diode Surface Mount DO-214AA (SMBJ); Package Reference: *; Supplier: Digi-Key; Mounting Technology: SMD; Supplier Part No.: SMBJ15ALFCT-ND; Datasheet: https://www.littelfuse.com/~/media/electronics/datasheets/tvs_diodes/littelfuse_tvs_diode_smbj_datasheet.pdf.pdf
footprint D0-214AA
pins: 1 A, 2 K

## SN74AUC1G74
designator U?, comment SN74AUC1G74DCUR
IC FF D-TYPE SNGL 1BIT US8; Manufacturer: Texas Instruments; Supplier: Digi-Key; Supplier Part No.: 296-18560-1-ND; Manufacturer Part No.: SN74AUC1G74DCUR; Mounting Technology: SMD; Package Description: Flip Flop 1 Element D-Type 1 Bit Positive Edge 8-VFSOP (0.091", 2.30mm Width); Package Reference: 8-VFSOP; Datasheet: https://www.ti.com/lit/ds/symlink/sn74auc1g74.pdf
footprint 8-VFSOP
pins: 1 CLK (in), 2 D (in), 3 #Q (out), 4 GND (power), 5 Q (out), 6 #CLR (in), 7 #PRE (in), 8 VCC (power)

## SN74LVC1G07DCKR
designator U?
IC BUF NON-INVERT 5.5V SC70-5; Manufacturer: Texas Instruments; Supplier: Digi-Key; Supplier Part No.: 296-8486-1-ND; Manufacturer Part No.: SN74LVC1G07DCKR; Mounting Technology: SMD; Package Reference: *; Package Description: Buffer, Non-Inverting 1 Element 1 Bit per Element Open Drain Output SC-70-5; ComponentLink1Description: Datasheet; ComponentLink1URL: https://www.ti.com/lit/ds/symlink/sn74lvc1g07.pdf
footprint SC70
pins: 1 NC, 2 A (in), 3 GND (power), 4 Y (out), 5 VCC (power)

## SOM-OSD3358-512M-BSM
designator U?, comment OSD3358-512M-BSM
OSD3358-512M-BSM , 256-FBGA, 21mmx21mmx3mm; Manufacturer: Octavo Systems; Package Description: 256-Ball Grid Array, 21x21x3 mm, Pitch 1.27 mm; Package: FBGA; Pin Count: 256-ball; Mounting Technology: SMD; ComponentLink1Description: Manufacturer URL; ComponentLink1URL: http://www.octavosystems.com/; Package Reference: FBGA-256; Supplier: Digi-Key; Supplier Part No.: 1676-1002-ND; PartNumber: OSD3358-512M-BSM
footprint BGA256C127P16X16_2100X2100X308 (BGA, 256-Leads, Body 21.00x21.00mmx3.08mm, Pitch 1.27mm)
part A pins: C10 I2C0_SCL (io), C11 I2C0_SDA (io), D4 EXTINTN (io), D10 PMIC_SCL (io), D11 PMIC_SDA (io), E4 PMIC_NINT (io), F6 SYS_VDD1_3P3V (power), F7 SYS_VDD1_3P3V (power), F8 SYS_VDD3_3P3V (power), F9 VDDSHV4 (power), F10 SYS_VDD_1P8V (power), F11 SYS_VDD2_3P3V (power), G6 SYS_VDD1_3P3V (power), G7 SYS_VDD1_3P3V (power), G8 SYS_VDD3_3P3V (power), G9 VDDSHV5 (power), G10 SYS_VDD_1P8V (power), G11 SYS_VDD2_3P3V (power), H7 SYS_VDD3_3P3V (power), H8 SYS_VDD3_3P3V (power), H9 VDDSHV6 (power), H10 SYS_VDD_1P8V (power), H11 SYS_VDD_1P8V (power), J7 SYS_VDD3_3P3V (power), J8 SYS_VDD3_3P3V (power), J9 VDDSHV1 (power), J10 SYS_VDD_1P8V (power), J11 SYS_VDD_1P8V (power), K6 SYS_VOUT (power), K7 SYS_VOUT (power), K8 SYS_VDD3_3P3V (power), K9 VDDSHV2 (power), K10 SYS_VDD_1P8V (power), K11 SYS_RTC_1P8V (power), L4 PMIC_NWAKEUP (io), L6 SYS_VOUT (power), L7 SYS_VOUT (power), L8 SYS_VDD3_3P3V (power), L9 VDDSHV3 (power), L10 SYS_VDD_1P8V (power), L11 SYS_RTC_1P8V (power), M2 EEPROM_WP (io), M4 EXT_WAKEUP (io), M13 PMIC_NRESET (io), M16 RTC_KALDO_ENN (io), N4 PMIC_LDO_PGOOD (io), N5 RTC_PWRONRSTN (io), N6 PMIC_TS, N7 PMIC_BAT_SENSE, N10 PMIC_POWER_EN (io), N11 PMIC_PWR_EN (io), N12 PMIC_PGOOD (io), P8 VIN_BAT (power), P9 VIN_USB (power), P10 VIN_AC (power), P11 PWRONRSTN (io), R8 VIN_BAT (power), R9 VIN_USB (power), R10 VIN_AC (power), R11 WARMRSTN (io), T8 VIN_BAT (power), T9 VIN_USB (power), T10 VIN_AC (power), T11 PMIC_PB_IN (io)
part B pins: A5 OSC1_OUT (out), A6 OSC1_IN (in), A7 SYS_ADC_1P8V (power), A8 AIN0, A9 AGND_ADC (power), B5 OSC1_GND (power), B6 AIN2, B7 VREFP (power), B8 AIN1, B9 VREFN (power), C1 TDI (io), C2 TDO (io), C6 AIN3, C7 AIN4, C8 AIN5, C9 AIN6, D1 TCK (io), D2 TMS (io), D3 TRSTN (io), D6 PMIC_MUX_OUT, D7 AIN7, E2 EMU0 (io), E3 EMU1 (io), J15 USB0_DRVVBUS (power), J16 USB0_VBUS (in), K13 USB0_CE (power), K14 USB0_ID, K15 USB0_DP (io), K16 USB0_DM (io), L13 USB1_CE (power), L14 USB1_ID, L15 USB1_DP (io), L16 USB1_DM (io), M14 USB1_DRVVBUS (power), M15 USB1_VBUS (in), N13 PMIC_MUX_IN, N15 OSC0_GND (power), N16 OSC0_OUT (out), P16 OSC0_IN (in)
part C pins: A1 MCASP0_ACLKX (io), A2 MCASP0_FSX (io), A3 MCASP0_ACLKR (io), A4 XDMA_EVENT_INTR0 (io), A10 UART1_RTSN (io), A11 UART1_RXD (io), A12 UART0_RXD (io), A13 SPI0_SCLK (io), A14 SPI0_CS0 (io), A15 MMC0_DAT1 (io), A16 MMC0_DAT0 (io), B1 MCASP0_AHCLKR (io), B2 MCASP0_AXR0 (io), B3 MCASP0_FSR (io), B4 XDMA_EVENT_INTR1 (io), B10 UART1_CTSN (io), B11 UART1_TXD (io), B12 UART0_TXD (io), B13 SPI0_D0 (io), B14 SPI0_D1 (io), B15 MMC0_CLK (io), B16 MMC0_CMD (io), C3 MCASP0_AXR1 (io), C4 MCASP0_AHCLKX (io), C5 ECAP0_IN_PWM0_OUT (io), C12 UART0_CTSN (io), C13 UART0_RTSN (io), C14 SPI0_CS1 (io), C15 MMC0_DAT3 (io), C16 MMC0_DAT2 (io), M1 GPMC_ADVN_ALE (io), N1 GPMC_OEN_REN (io), N2 GPMC_WEN (io), N3 GPMC_BEN0_CLE  (io), N14 GPMC_BEN1 (io), P1 GPMC_CSN2 (io), P2 GPMC_CSN1 (io), P3 GPMC_CSN0 (io), P4 GPMC_AD6 (io), P5 GPMC_AD9 (io), P6 GPMC_AD12 (io), P7 GPMC_AD15 (io), P12 GPMC_A2 (io), P13 GPMC_A5 (io), P14 GPMC_A8 (io), P15 GPMC_WAIT0 (io), R1 GPMC_AD2 (io), R2 GPMC_AD1 (io), R3 GPMC_AD0 (io), R4 GPMC_AD7 (io), R5 GPMC_AD10 (io), R6 GPMC_AD13 (io), R7 GPMC_CSN3 (io), R12 GPMC_A1 (io), R13 GPMC_A4 (io), R14 GPMC_A7 (io), R15 GPMC_A10 (io), R16 GPMC_WPN (io), T1 GPMC_AD5 (io), T2 GPMC_AD4 (io), T3 GPMC_AD3 (io), T4 GPMC_AD8 (io), T5 GPMC_AD11 (io), T6 GPMC_AD14 (io), T7 GPMC_CLK (io), T12 GPMC_A0 (io), T13 GPMC_A3 (io), T14 GPMC_A6 (io), T15 GPMC_A9 (io), T16 GPMC_A11 (io)
part D pins: D13 MDC (io), D14 MII1_RXD3 (io), D15 MII1_RXD2 (io), D16 MII1_RXD1 (io), E1 LCD_AC_BIAS_EN (io), E13 MDIO (io), E14 MII1_RXD0 (io), E15 MII1_RX_ER (io), E16  MII1_RX_CLK (io), F1 LCD_PCLK  (io), F2 LCD_HSYNC (io), F3 LCD_VSYNC  (io), F14 MII1_CRS (io), F15 MII1_COL (io), F16 MII1_RX_DV (io), G1 LCD_DATA2 (io), G2 LCD_DATA1 (io), G3 LCD_DATA0 (io), G14 MII1_TX_EN (io), G15 MII1_TXD3 (io), G16 MII1_TXD2 (io), H1 LCD_DATA5 (io), H2 LCD_DATA4 (io), H3 LCD_DATA3 (io), H14 MII1_TXD1 (io), H15 MII1_TXD0 (io), H16  MII1_TX_CLK (io), J1 LCD_DATA8 (io), J2 LCD_DATA7 (io), J3 LCD_DATA6 (io), J14 RMII1_REF_CLK (io), K1 LCD_DATA11 (io), K2 LCD_DATA10 (io), K3 LCD_DATA9 (io), L1 LCD_DATA14 (io), L2 LCD_DATA13 (io), L3 LCD_DATA12 (io), M3 LCD_DATA15 (io)
part E pins: D8 DGND (power), D9 DGND (power), E5 DGND (power), E6 DGND (power), E7 DGND (power), E8 DGND (power), E9 DGND (power), E10 DGND (power), E11 DGND (power), E12 DGND (power), F5 DGND (power), F12 DGND (power), G5 DGND (power), G12 DGND (power), H4 DGND (power), H5 DGND (power), H12 DGND (power), H13 DGND (power), J4 DGND (power), J5 DGND (power), J12 DGND (power), J13 DGND (power), K5 DGND (power), K12 DGND (power), L5 DGND (power), L12 DGND (power), M5 DGND (power), M6 DGND (power), M7 DGND (power), M8 DGND (power), M9 DGND (power), M10 DGND (power), M11 DGND (power), M12 DGND (power), N8 DGND (power), N9 DGND (power)
part F pins: D5 CAP_VDD_RTC (power), D12 NC (power), F4 VDDS_DDR (power), F13 VDD_MPU (power), G4 VDD_CORE (power), G13 VDDS_PLL (power), H6 VPP (power), J6 NC (power), K4 NC (power)
part A text: I2C0; *GND to PGM EEPROM
part B text: XTAL; ANALOG POWER; RTC /; ANALOG; JTAG; USB0; USB1
part F text: *TEST POINTS ONLY; *DO NOT CONNECT

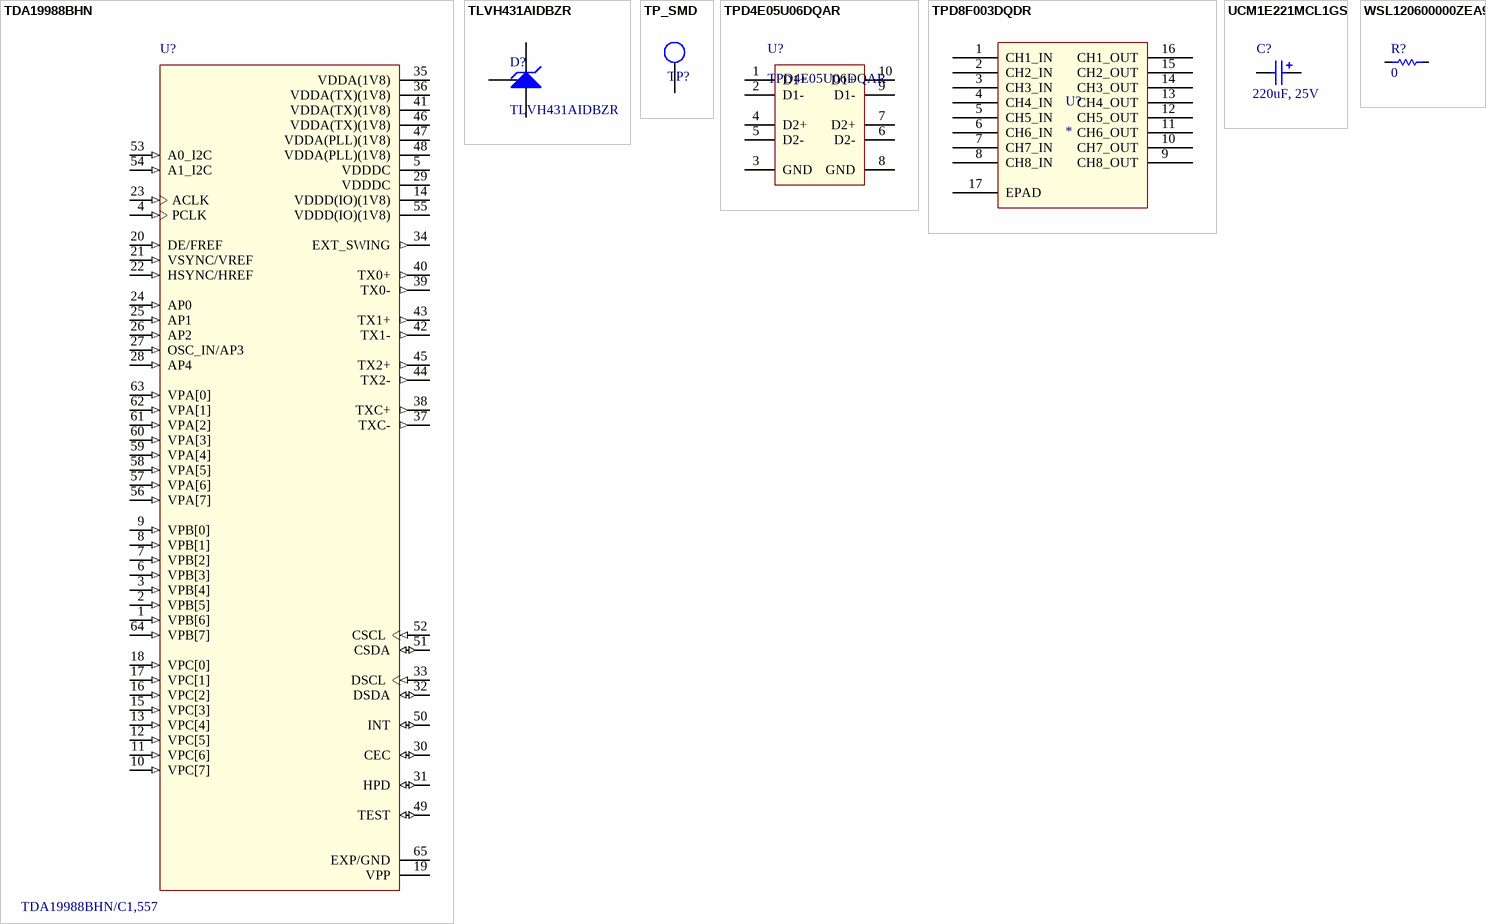
[diagram p2: symbols TDA19988BHN to WSL120600000ZEA9]

## TDA19988BHN
designator U?, comment TDA19988BHN/C1,557
IC VIDEO HDMI TRANS 64HVQFN; Manufacturer: NXP USA Inc.; Manufacturer Part No.: TDA19988BHN/C1,557; Supplier: Digi-Key; Package Reference: HVQFN-64_9x9MM; Supplier Part No.: 568-12059-ND; Package Description: Video  IC   64-HVQFN (9x9) Package; Mounting Technology: SMD; ComponentLink1Description: Datasheet; ComponentLink1URL: https://media.digikey.com/pdf/Data%20Sheets/NXP%20PDFs/TDA19988_DS_21_july_2011.pdf
footprint HVQFN-64_9x9MM
pins: 1 VPB[6] (in), 2 VPB[5] (in), 3 VPB[4] (in), 4 PCLK (in), 5 VDDDC (power), 6 VPB[3] (in), 7 VPB[2] (in), 8 VPB[1] (in), 9 VPB[0] (in), 10 VPC[7] (in), 11 VPC[6] (in), 12 VPC[5] (in), 13 VPC[4] (in), 14 VDDD(IO)(1V8) (power), 15 VPC[3] (in), 16 VPC[2] (in), 17 VPC[1] (in), 18 VPC[0] (in), 19 VPP (power), 20 DE/FREF (in), 21 VSYNC/VREF (in), 22 HSYNC/HREF (in), 23 ACLK (in), 24 AP0 (in), 25 AP1 (in), 26 AP2 (in), 27 OSC_IN/AP3 (in), 28 AP4 (in), 29 VDDDC (power), 30 CEC (io), 31 HPD (io), 32 DSDA (io), 33 DSCL (in), 34 EXT_SWING (out), 35 VDDA(1V8) (power), 36 VDDA(TX)(1V8) (power), 37 TXC- (out), 38 TXC+ (out), 39 TX0- (out), 40 TX0+ (out), 41 VDDA(TX)(1V8) (power), 42 TX1- (out), 43 TX1+ (out), 44 TX2- (out), 45 TX2+ (out), 46 VDDA(TX)(1V8) (power), 47 VDDA(PLL)(1V8) (power), 48 VDDA(PLL)(1V8) (power), 49 TEST (io), 50 INT (io), 51 CSDA (io), 52 CSCL (in), 53 A0_I2C (in), 54 A1_I2C (in), 55 VDDD(IO)(1V8) (power), 56 VPA[7] (in), 57 VPA[6] (in), 58 VPA[5] (in), 59 VPA[4] (in), 60 VPA[3] (in), 61 VPA[2] (in), 62 VPA[1] (in), 63 VPA[0] (in), 64 VPB[7] (in), 65 EXP/GND (power)

## TLVH431AIDBZR
designator D?
IC VREF SHUNT 18V 1% SOT23-3; Manufacturer: Texas Instruments; Package Reference: SOT-23-3; Package Description: Shunt Voltage Reference IC 18V ±1%  SOT-23-3; Manufacturer Part No.: TLVH431AIDBZR; Supplier: Digi-Key; Datasheet: https://www.ti.com/lit/ds/symlink/tlvh431a.pdf; Supplier Part No.: 296-17970-1-ND; Mounting Technology: SMD
footprint SOT-23-3 (SOT23, 3-Leads, Body 2.9x1.3mm, Pitch 0.95mm, IPC Low Density)
pins: 1 C, 2 REF, 3 A

## TP_SMD
designator TP?  (value not drawn)
footprint TP_SMD
pins: 1

## TPD4E05U06DQAR
designator U?
TVS DIODE 5.5V 14V 10SON; Manufacturer: Texas Instruments; Supplier: Digi-Key; Manufacturer Part No.: TPD4E05U06DQAR; Supplier Part No.: 296-35765-1-ND; Package Reference: USON-10; Package Description: 14V Clamp 2.5A (8/20µs) Ipp Tvs Diode Surface Mount 10-USON (2.5x1); Mounting Technology: SMD; Datasheet: https://www.ti.com/lit/ds/symlink/tpd4e05u06.pdf
footprint USON-10_2.5X1MM
pins: 1 D1+, 2 D1-, 3 GND, 4 D2+, 5 D2-, 6 D2-, 7 D2+, 8 GND, 9 D1-, 10 D1+

## TPD8F003DQDR
designator U?
FILTER RC(PI) 100 OHM/8.5PF SMD WITH ESD PROTECTION; Manufacturer: Texas Instruments; Manufacturer Part No.: TPD8F003DQDR; ESD Discharge (Contact): 12 kV; ESD Discharge (Air Gap): 20 kV; Cut-Off Frequency: 200 MHz; Attenuation: 25dB @ 1Ghz; Supplier: Digi-Key; Mounting Technology: SMD; Package Reference: 16-WFDFN Exposed Pad, 0.79mm height; Package Description: WSON-16_3.3MMX1.35MM; Datasheet: https://www.ti.com/lit/ds/symlink/tpd8f003.pdf; Supplier Part No.: 296-25803-1-ND
footprint WSON-16_3.3MMX1.35MM
pins: 1 CH1_IN, 2 CH2_IN, 3 CH3_IN, 4 CH4_IN, 5 CH5_IN, 6 CH6_IN, 7 CH7_IN, 8 CH8_IN, 9 CH8_OUT, 10 CH7_OUT, 11 CH6_OUT, 12 CH5_OUT, 13 CH4_OUT, 14 CH3_OUT, 15 CH2_OUT, 16 CH1_OUT, 17 EPAD (power)

## UCM1E221MCL1GS
designator C?, comment 220uF, 25V
CAP ALUM 220UF 20% 25V SMD; Manufacturer Part No.: UCM1E221MCL1GS; Manufacturer: Nichicon; Rated Voltage: 25 VDC; ComponentLink1Description: Manufacturer; ComponentLink1URL: http://www.we-online.de; ComponentLink2Description: Datasheet; ComponentLink2URL: https://katalog.we-online.com/pbs/datasheet/865080345012.pdf; Mounting Technology: SMD; Value: 220uF; Tolerance: 20%; Datasheet: https://www.nichicon.co.jp/english/products/pdfs/e-ucm.pdf; Supplier: Digi-Key; Supplier Part No.: 493-14530-1-ND; Package Description: 220µF 25V Aluminum Electrolytic Capacitors Radial, Can - SMD  2000 Hrs @ 105°C
footprint CAP_SMD_6.3x7.7 (Aluminium Electrolytic V-Chip SMT Capacitors, 6.3x7.7mm)
pins: 1 N, 2 P

## WSL120600000ZEA9
designator R?, comment 0
RES 0 OHM JUMPER 1206; Manufacturer: Vishay Dale; Manufacturer Part No.: WSL120600000ZEA9; Power Rating: 1/4W; Tolerance: 0; Date: 2020; ComponentLink1Description: Manufacturer Link; ComponentLink1URL: http://www.vishay.com/company/brands/dale/; ComponentLink2Description: Datasheet; ComponentLink2URL: http://www.vishay.com/docs/20035/dcrcwe3.pdf; Supplier: Digikey; Supplier Part No.: 541-3929-1-ND; Datasheet: http://www.vishay.com/docs/30192/wsl-9.pdf; Package Reference: RES_1206; Package Description: 1206; Mounting Technology: SMD; Value: 0
footprint RES_1206
pins: 1, 2